# Altium footprint library WE-CBF_0805_W4.0.PcbLib: 1 footprints
Each footprint in its own frame and in the unit in brackets; x right, y up, seen from the top. Pads: shape width x height; smd on the part's side, far side on the other; paste and mask are expansions set on the pad; w line width, h text height; cw(c..) or ccw(c..) is an arc to the next point about the centre after c.
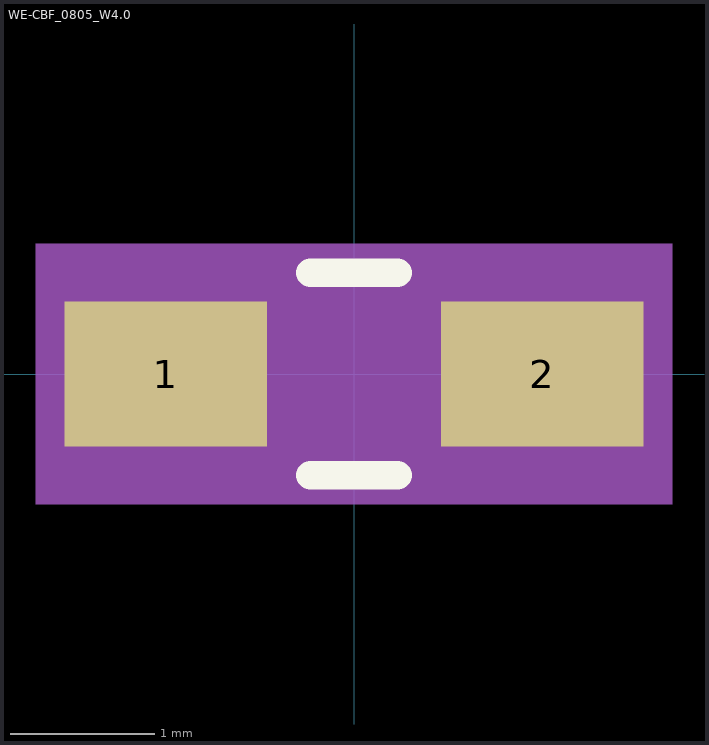
[diagram p0: the footprint, top view; thin cyan lines are the x and y axes]

## WE-CBF_0805_W4.0 [mm]
pads (2):
  rect 1.4x1 smd: 1(-1.3,0) 2(1.3,0)
Top Overlay:
  lines w0.2: -0.3,-0.7 0.3,-0.7 ; -0.3,0.7 0.3,0.7
Assembly Top:
  lines w0.1: -1,-0.6 -1,0.6 1,0.6 1,-0.6 -1,-0.6
Courtyard Top:
  region: 2.2,-0.9 -2.2,-0.9 -2.2,0.9 2.2,0.9
3D body "step_temp.STEP": height 1, standoff -1, extent -0.6,-0.45 0.6,0.45